# Altium schematic symbol library Res1000.SchLib: 1 symbol
Pins are listed as number, name and electrical type; pins without a type are passive.

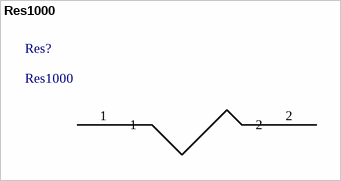
[diagram p0: symbol Res1000]

## Res1000
designator Res?
footprint RESC1608X06M (Chip Resistor, 2-Leads, Body 1,60x0,80mm, IPC Low Density)
pins: 1, 2